# Altium footprint library PcbLib1.PcbLib: 31 footprints (part 1 of 2)
Each footprint in its own frame and in the unit in brackets; x right, y up, seen from the top. Pads: shape width x height; smd on the part's side, far side on the other; paste and mask are expansions set on the pad; w line width, h text height; cw(c..) or ccw(c..) is an arc to the next point about the centre after c.
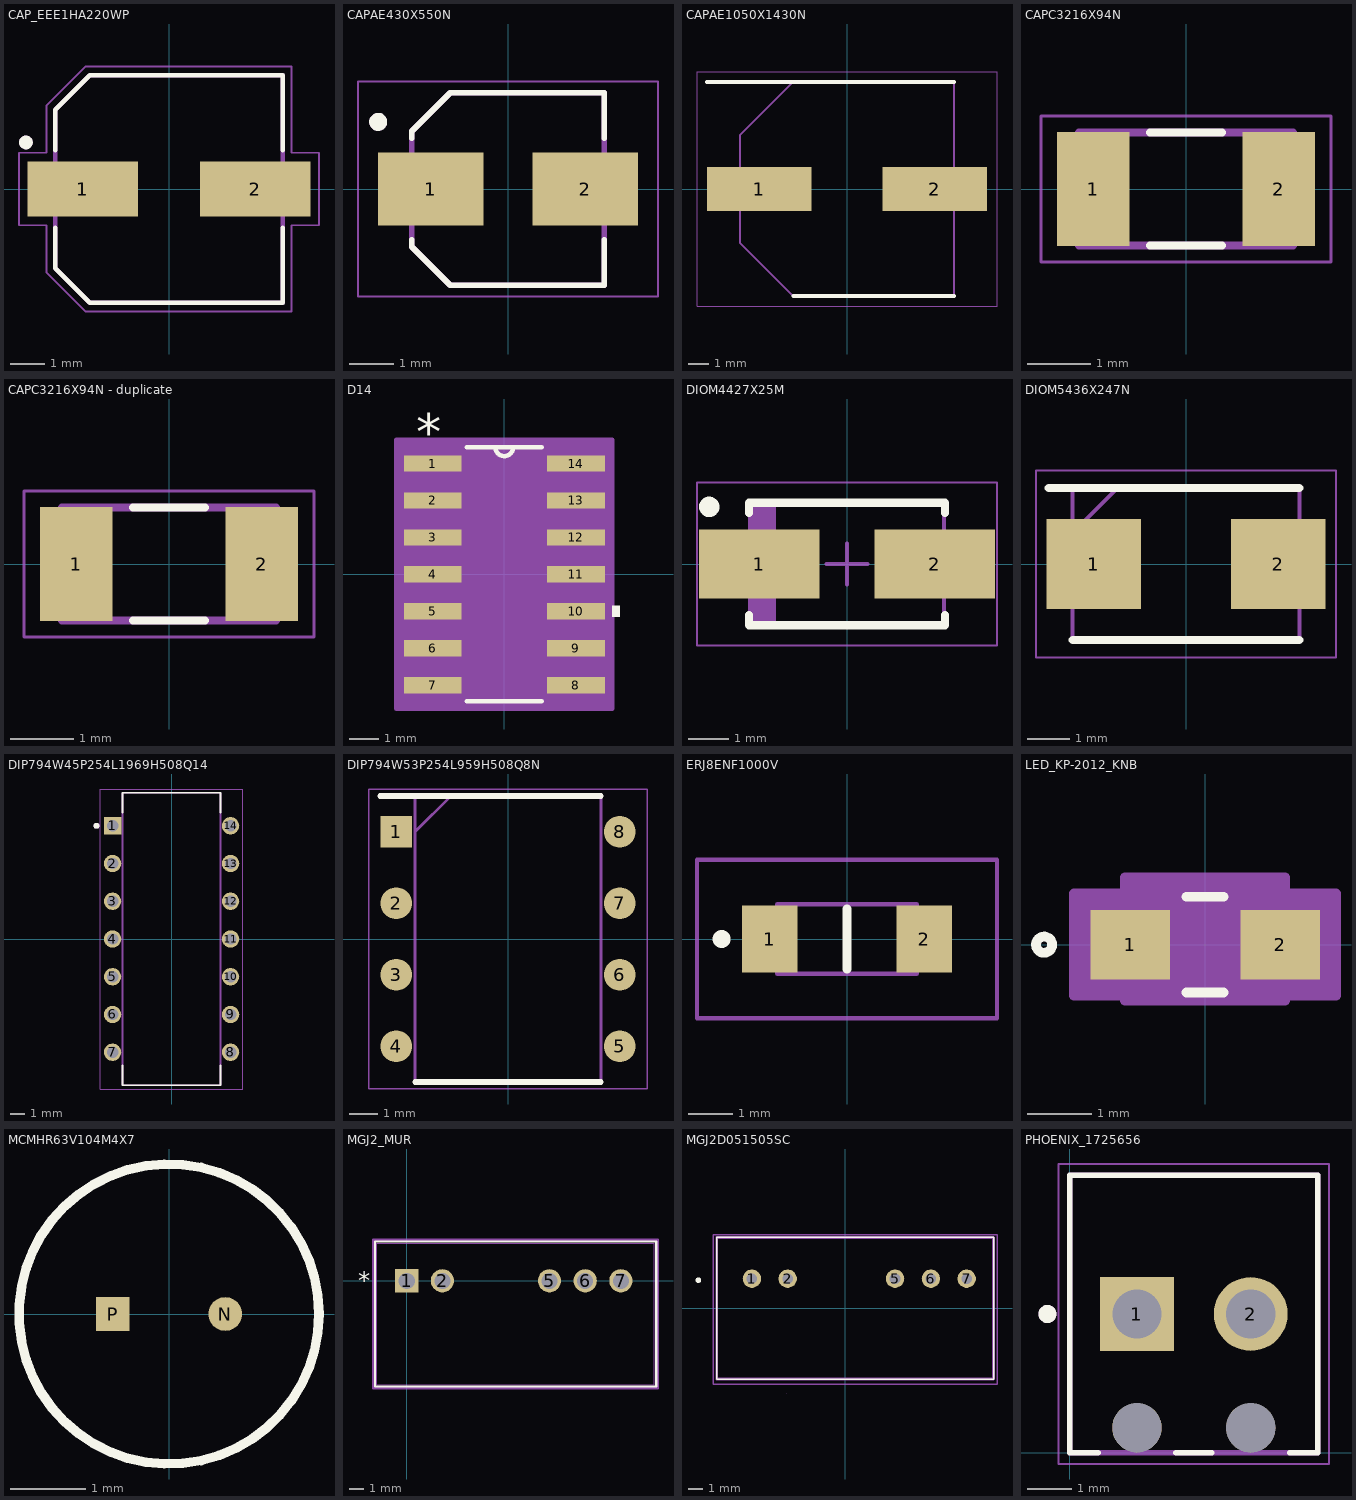
[diagram p0: the footprints below, top view; thin cyan lines are the x and y axes]

## CAP_EEE1HA220WP [mm]
height 5.4
pads (2):
  rect 3.2x1.6 smd: 1(-2.5,0) 2(2.5,0)
Top Overlay:
  circle w0.2: c-4.15,1.35 r0.1
  lines w0.127: -3.3,-1.12 -3.3,-2.3 -2.3,-3.3 3.3,-3.3 3.3,-1.12 ; -3.3,1.12 -3.3,2.3 -2.3,3.3 3.3,3.3 3.3,1.12
Mechanical 13:
  circle w0.2: c-4.15,1.35 r0.1
  lines w0.127: -3.3,-2.3 -2.3,-3.3 3.3,-3.3 3.3,3.3 -2.3,3.3 -3.3,2.3 -3.3,-2.3
Mechanical 15:
  lines w0.05: -4.35,-1.05 -4.35,1.05 -3.55,1.05 -3.55,2.425 -2.425,3.55 3.55,3.55 3.55,1.05 4.35,1.05 4.35,-1.05 3.55,-1.05 3.55,-3.55 -2.425,-3.55 -3.55,-2.425 -3.55,-1.05 -4.35,-1.05
3D body "step_temp.STEP": height 5.8, standoff 0, extent -3.65,-3.3 3.65,3.3

## CAPAE430X550N [mm]
pads (2):
  rect 2.36x1.62 smd: 1(-1.725,0) 2(1.725,0)
Top Overlay:
  circle w0.2: c-2.9,1.5 r0.1
  lines w0.127: -2.15,-1.13 -2.15,-1.29 -1.29,-2.15 2.15,-2.15 2.15,-1.13 ; -2.15,1.13 -2.15,1.29 -1.29,2.15 2.15,2.15 2.15,1.13
Mechanical 13:
  circle w0.2: c-2.9,1.5 r0.1
  lines w0.127: -2.15,-1.29 -1.29,-2.15 2.15,-2.15 2.15,2.15 -1.29,2.15 -2.15,1.29 -2.15,-1.29
Mechanical 15:
  lines w0.05: -3.35,-2.4 -3.35,2.4 3.35,2.4 3.35,-2.4 -3.35,-2.4
3D body "PCAP_4x5_4-ELECT_NCA.step": height 5.57, standoff 0, extent -2.502,-2.248 2.502,2.248

## CAPAE1050X1430N [mm]
pads (2):
  rect 5.1x2.15 smd: 1(-4.3,0) 2(4.3,0)
Top Overlay:
  lines w0.2: -6.85,5.25 5.25,5.25 ; -2.625,-5.25 5.25,-5.25
Mechanical 15:
  lines w0.1: -5.25,-2.625 -2.625,-5.25 5.25,-5.25 5.25,5.25 -2.625,5.25 -5.25,2.625 -5.25,-2.625
Mechanical 20:
  lines w0.05: -7.35,-5.75 -7.35,5.75 7.35,5.75 7.35,-5.75 -7.35,-5.75
3D body "MAL215097102E3.stp": height 14.3, standoff 0, extent -6.05,-5.25 6.05,5.25

## CAPC3216X94N [mm]
pads (2):
  rect 1.16x1.82 smd: 1(-1.475,0) 2(1.475,0)
Top Overlay:
  lines w0.127: -0.57,-0.9 0.57,-0.9 ; -0.57,0.9 0.57,0.9
Mechanical 13:
  lines w0.127: -1.7,-0.9 1.7,-0.9 1.7,0.9 -1.7,0.9 -1.7,-0.9
Mechanical 15:
  lines w0.05: -2.308,-1.158 2.308,-1.158 2.308,1.158 -2.308,1.158 -2.308,-1.158
3D body "step_temp.STEP": height 0.94, standoff 0, extent -1.6,-0.8 1.6,0.8

## CAPC3216X94N - duplicate [mm]
pads (2):
  rect 1.16x1.82 smd: 1(-1.475,0) 2(1.475,0)
Top Overlay:
  lines w0.127: -0.57,-0.9 0.57,-0.9 ; -0.57,0.9 0.57,0.9
Mechanical 13:
  lines w0.127: -1.7,-0.9 -1.7,0.9 1.7,0.9 1.7,-0.9 -1.7,-0.9
Mechanical 15:
  lines w0.05: -2.308,-1.158 -2.308,1.158 2.308,1.158 2.308,-1.158 -2.308,-1.158
3D body "step_temp.STEP": height 0.94, standoff 0, extent -1.6,-0.8 1.6,0.8

## D14 [mil]
pads (14):
  rect 78x22 smd paste-39 mask-39: 1(-97,150) 2(-97,100) 3(-97,50) 4(-97,0) 5(-97,-50) 6(-97,-100) 7(-97,-150) 8(97,-150) 9(97,-100) 10(97,-50) 11(97,0) 12(97,50) 13(97,100) 14(97,150)
Top Overlay:
  region: 146,-42.5 156,-42.5 156,-57.5 146,-57.5
  lines w6: -50.89,-172 50.89,-172 ; -50.89,172 50.89,172 ; -12,172 ccw(c0,172) 12,172
  text "*" at -119.5,167 h50
Mechanical 13:
  lines w0: -12,172 ccw(c0,172) 12,172
  lines w1: -122,-160 -122,-140 -78.5,-140 -78.5,-160 -122,-160 ; -122,-110 -122,-90 -78.5,-90 -78.5,-110 -122,-110 ; -122,-60 -122,-40 -78.5,-40 -78.5,-60 -122,-60 ; -122,-10 -122,10 -78.5,10 -78.5,-10 -122,-10 ; -122,40 -122,60 -78.5,60 -78.5,40 -122,40 ; -122,90 -122,110 -78.5,110 -78.5,90 -122,90 ; -122,140 -122,160 -78.5,160 -78.5,140 -122,140 ; -78.5,-172 78.5,-172 78.5,172 -78.5,172 -78.5,-172 ; 78.5,-160 78.5,-140 122,-140 122,-160 78.5,-160 ; 78.5,-110 78.5,-90 122,-90 122,-110 78.5,-110 ; 78.5,-60 78.5,-40 122,-40 122,-60 78.5,-60 ; 78.5,-10 78.5,10 122,10 122,-10 78.5,-10 ; 78.5,40 78.5,60 122,60 122,40 78.5,40 ; 78.5,90 78.5,110 122,110 122,90 78.5,90 ; 78.5,140 78.5,160 122,160 122,140 78.5,140
  text "*" at -119.5,167 h50
Mechanical 15:
  region: 146,-182 -146,-182 -146,182 146,182
  lines w6: -146,-182 -146,182 146,182 146,-182 -146,-182
3D body "D14.step": height 69.09, standoff 0, extent -122.01,-172.01 122.01,172.01

## DIOM4427X25M [mm] "Molded Diode, 2-Leads, Body 4.38x2.73mm, IPC Low Density"
height 2.5
pads (2):
  rect 2.95x1.7 smd: 1(-2.15,0) 2(2.15,0)
Top Overlay:
  circle w0.25: c-3.375,1.4 r0.125
  lines w0.2: -2.4,-1.25 -2.4,-1.5 2.4,-1.5 2.4,-1.25 ; -2.4,1.25 -2.4,1.5 2.4,1.5 2.4,1.25
Top Assembly:
  rectangle: -2.375,-1.475 -1.736,1.475
  lines w0.1: -2.375,-1.475 -2.375,1.475 2.375,1.475 2.375,-1.475 -2.375,-1.475
Mechanical 15:
  lines w0.05: -3.675,-2 -3.675,2 3.675,2 3.675,-2 -3.675,-2
  lines w0.1: -0.5,0 0.5,0 ; 0,-0.5 0,0.5
3D body "DIOM4427X25M.step": height 2.5, standoff 0, extent -2.595,-1.475 2.595,1.475

## DIOM5436X247N [mm]
pads (2):
  rect 2.25x2.15 smd: 1(-2.2,0) 2(2.2,0)
Top Overlay:
  lines w0.2: -3.275,1.812 2.702,1.812 ; -2.702,-1.812 2.702,-1.812
Mechanical 15:
  lines w0.1: -2.702,0.738 -1.628,1.812 ; -2.702,-1.812 -2.702,1.812 2.702,1.812 2.702,-1.812 -2.702,-1.812
Mechanical 20:
  lines w0.05: -3.575,-2.225 -3.575,2.225 3.575,2.225 3.575,-2.225 -3.575,-2.225
3D body "1SMB5931BT3G.stp": height 2.47, standoff 0, extent -2.702,-1.813 2.702,1.813

## DIP794W45P254L1969H508Q14 [mm]
pads (14):
  rect 1.17x1.17 / inner round 1.17 / far side rect 1.17x1.17 hole 0.77: 1(-3.97,7.62)
  round 1.17 hole 0.77: 2(-3.97,5.08) 3(-3.97,2.54) 4(-3.97,0) 5(-3.97,-2.54) 6(-3.97,-5.08) 7(-3.97,-7.62) 8(3.97,-7.62) 9(3.97,-5.08) 10(3.97,-2.54) 11(3.97,0) 12(3.97,2.54) 13(3.97,5.08) 14(3.97,7.62)
Top Overlay:
  circle w0.2: c-5.055,7.62 r0.1
  lines w0.127: -3.3,-8.525 -3.3,-9.845 3.3,-9.845 3.3,-8.525 ; -3.3,8.525 -3.3,9.845 3.3,9.845 3.3,8.525
Mechanical 13:
  circle w0.2: c-5.055,7.62 r0.1
  lines w0.127: -3.3,-9.845 -3.3,9.845 3.3,9.845 3.3,-9.845 -3.3,-9.845
Mechanical 15:
  lines w0.05: -4.805,-10.095 -4.805,10.095 4.805,10.095 4.805,-10.095 -4.805,-10.095
3D body "step_temp.STEP": height 5.08, standoff -3.18, extent -3.935,-9.653 3.935,9.653

## DIP794W53P254L959H508Q8N [mm]
pads (8):
  rect 1.13x1.13 smd: 1(-3.97,3.81)
  round 1.13 smd: 2(-3.97,1.27) 3(-3.97,-1.27) 4(-3.97,-3.81) 5(3.97,-3.81) 6(3.97,-1.27) 7(3.97,1.27) 8(3.97,3.81)
Top Overlay:
  lines w0.2: -4.535,5.08 3.3,5.08 ; -3.3,-5.08 3.3,-5.08
Mechanical 13:
  lines w0.1: -3.3,3.81 -2.03,5.08 ; -3.3,-5.08 3.3,-5.08 3.3,5.08 -3.3,5.08 -3.3,-5.08
Mechanical 15:
  lines w0.05: -4.945,-5.33 4.945,-5.33 4.945,5.33 -4.945,5.33 -4.945,-5.33
3D body "LM741CN_NOPB-936607701.stp": height 7.56, standoff -0.01, extent -4.102,-4.635 4.102,4.635

## ERJ8ENF1000V [mm]
pads (2):
  rect 1.25x1.5 smd: 1(-1.725,0) 2(1.725,0)
Top Overlay:
  lines w0.2: 0,-0.675 0,0.675 ; -2.8,-0.1 ccw(c-2.8,0) -2.8,0.1 ccw(c-2.8,0) -2.8,-0.1
Mechanical 15:
  lines w0.1: -1.562,-0.775 -1.562,0.775 1.562,0.775 1.562,-0.775 -1.562,-0.775
Mechanical 20:
  lines w0.1: -3.35,-1.775 -3.35,1.775 3.35,1.775 3.35,-1.775 -3.35,-1.775
3D body "ERJ-8ENF30R0V.stp": height 0.6, standoff 0, extent -1.6,-0.8 1.6,0.8

## LED_KP-2012_KNB [mil]
pads (2):
  rect 49x43 smd paste+0 mask+0: 1(-46.26,0) 2(46.26,0)
Top Overlay:
  circle w6: c-99.26,0 r5
  lines w6: -11.39,-29.5 11.39,-29.5 ; -11.39,29.5 11.39,29.5
Mechanical 13:
  circle w0: c-21.76,0 r3
  lines w0: -12,24.5 ccw(c0,24.5) 12,24.5
  lines w1: -39.5,-24.5 39.5,-24.5 39.5,24.5 -39.5,24.5 -39.5,-24.5
Mechanical 15:
  region: -49.5,-31.5 -80.76,-31.5 -80.76,31.5 -49.5,31.5 -49.5,41.5 49.5,41.5 49.5,31.5 80.76,31.5 80.76,-31.5 49.5,-31.5 49.5,-34.5 -49.5,-34.5
  lines w6: -80.76,-31.5 -80.76,31.5 -49.5,31.5 -49.5,41.5 49.5,41.5 49.5,31.5 80.76,31.5 80.76,-31.5 49.5,-31.5 49.5,-34.5 -49.5,-34.5 -49.5,-31.5 -80.76,-31.5
3D body "LED_KP-2012_KNB.step": height 43.11, standoff 0, extent -39.49,-24.49 39.49,24.49

## MCMHR63V104M4X7 [mm]
pads (2):
  round 0.45 smd: N(0.75,0)
  rect 0.45x0.45 smd: P(-0.75,0)
Top Overlay:
  circle w0.127: c0,0 r2
3D body "MCMHR63V104M4X7--3DModel-STEP-269445.STEP": height 7, standoff -20, extent -2,-2 1.989,2

## MGJ2_MUR [mil]
pads (5):
  rect 65x65 / inner round 60 / far side rect 65x65 hole 45 paste-32.5 mask+0: 1(0,0)
  round 65 / inner round 60 / far side round 65 hole 45 paste-32.5 mask+0: 2(100,0) 5(400,0) 6(500,0) 7(600,0)
Top Overlay:
  lines w6: -89,-296 699,-296 699,110 -89,110 -89,-296
  text "*" at -136.5,-25 h50
Mechanical 13:
  lines w1: -84,-291 694,-291 694,105 -84,105 -84,-291
  text "*" at -86.5,-25 h50
Mechanical 15:
  lines w6: -94,-301 -94,115 704,115 704,-301 -94,-301
3D body "MGJ2_MUR.step": height 502.01, standoff -240, extent -84.03,-290.99 694,104.99

## MGJ2D051505SC [mm]
pads (5):
  round 1.303 hole 0.76: 1(-6.63,2.095) 2(-4.09,2.095) 5(3.53,2.095) 6(6.07,2.095) 7(8.61,2.095)
Top Overlay:
  lines w0.1: -9.125,-5.025 -9.125,5.025 10.525,5.025 10.525,-5.025 -9.125,-5.025
  lines w0.2: -10.425,1.895 ccw(c-10.425,1.995) -10.425,2.095 ccw(c-10.425,1.995) -10.425,1.895
Mechanical 13:
  lines w0.2: -9.125,-5.025 -9.125,5.025 10.525,5.025 10.525,-5.025 -9.125,-5.025
Mechanical 15:
  lines w0.1: -9.366,-5.39 -4.143,-5.39 6.302,-5.39 10.763,-5.39 10.763,-2.409 10.763,3.298 10.763,5.207 -9.366,5.207 -9.366,3.012 -9.366,-3.013 -9.366,-5.39 ; -4.143,-6.025 -4.143,-6.025
3D body "MGJ2D051505SC.stp": height 12.67, standoff -3.93, extent -8.94,-5.29 10.56,4.53

## PHOENIX_1725656 [mm]
height 8.65
pads (4):
  rect 1.65x1.65 / inner round 1.65 / far side rect 1.65x1.65 hole 1.1: 1(1.5,3.1)
  round 1.65 hole 1.1: 2(4.04,3.1)
  round 1.1 hole 1.1 unplated: ""(1.5,0.56) ""(4.04,0.56)
Top Overlay:
  circle w0.2: c-0.5,3.1 r0.1
  lines w0.127: 0.63,0 0,0 0,6.2 5.54,6.2 5.54,0 4.91,0 ; 2.37,0 3.17,0
Mechanical 13:
  circle w0.2: c-0.5,3.1 r0.1
  lines w0.127: 0,0 0,6.2 5.54,6.2 5.54,0 0,0
Mechanical 15:
  lines w0.05: -0.25,-0.25 -0.25,6.45 5.79,6.45 5.79,-0.25 -0.25,-0.25
3D body "step_temp.STEP": height 8.65, standoff -3.7, extent 0,0 5.54,6.2